# Altium footprint library TSSOP-8(4.4X3.0).PcbLib: 1 footprints
Each footprint in its own frame and in the unit in brackets; x right, y up, seen from the top. Pads: shape width x height; smd on the part's side, far side on the other; paste and mask are expansions set on the pad; w line width, h text height; cw(c..) or ccw(c..) is an arc to the next point about the centre after c.
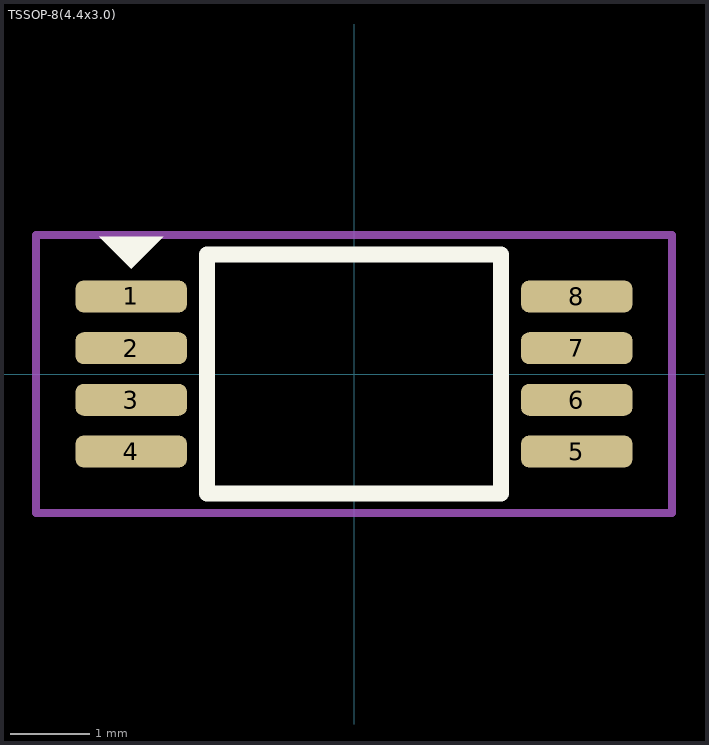
[diagram p0: the footprint, top view; thin cyan lines are the x and y axes]

## TSSOP-8(4.4x3.0) [mm]
pads (8):
  rrect50% 1.4x0.4 smd: 1(-2.8,0.975) 2(-2.8,0.325) 3(-2.8,-0.325) 4(-2.8,-0.975) 5(2.8,-0.975) 6(2.8,-0.325) 7(2.8,0.325) 8(2.8,0.975)
Top Overlay:
  region: -3.2,1.725 -2.4,1.725 -2.8,1.325
  lines w0.2: -1.85,-1.5 1.85,-1.5 1.85,1.5 -1.85,1.5 -1.85,-1.5
Top Courtyard:
  lines w0.1: -4,-1.75 -4,1.75 4,1.75 4,-1.75 -1.85,-1.75 -4,-1.75
3D body "LM57FEPWQ1.STEP": height 1.2, standoff 0, extent -3.205,-1.5 3.195,1.5